# Altium footprint library PcbLib1.PcbLib: 1 footprints
Each footprint in its own frame and in the unit in brackets; x right, y up, seen from the top. Pads: shape width x height; smd on the part's side, far side on the other; paste and mask are expansions set on the pad; w line width, h text height; cw(c..) or ccw(c..) is an arc to the next point about the centre after c.
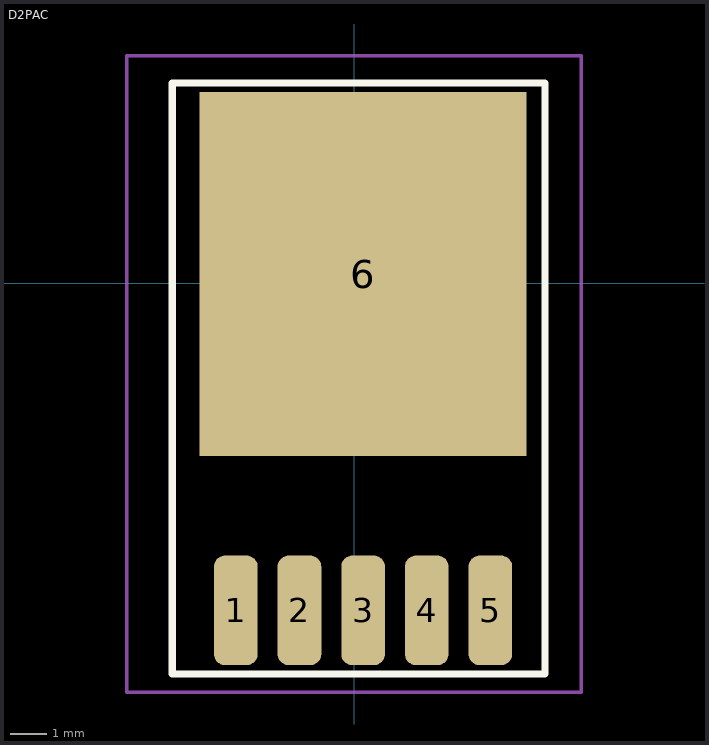
[diagram p0: the footprint, top view; thin cyan lines are the x and y axes]

## D2PAC [mm]
pads (6):
  rrect50% 1.2x3.015 smd: 1(-3.25,-9) 2(-1.5,-9) 4(2,-9) 5(3.75,-9)
  rrect50% 1.2x3.016 smd: 3(0.25,-9)
  rect 9x10 smd: 6(0.25,0.25)
Top Overlay:
  lines w0.2: -5,-10.75 5.25,-10.75 5.25,5.5 -5,5.5 -5,-4.75 -5,-10.75
Mechanical 15:
  lines w0.1: -1,0 1,0 ; 0,-1 0,1.25 0,0 ; -6.25,-11.25 6.25,-11.25 6.25,6.25 -6.25,6.25 -6.25,-3.75 -6.25,-11.25
3D body "D2PAK-5.step": height 4.82, standoff 0, extent -4.857,-9.925 5.25,4.425